# EAGLE library part IC-PCA9555 (library ic)
NXP I²C 16-bit I/O Expander
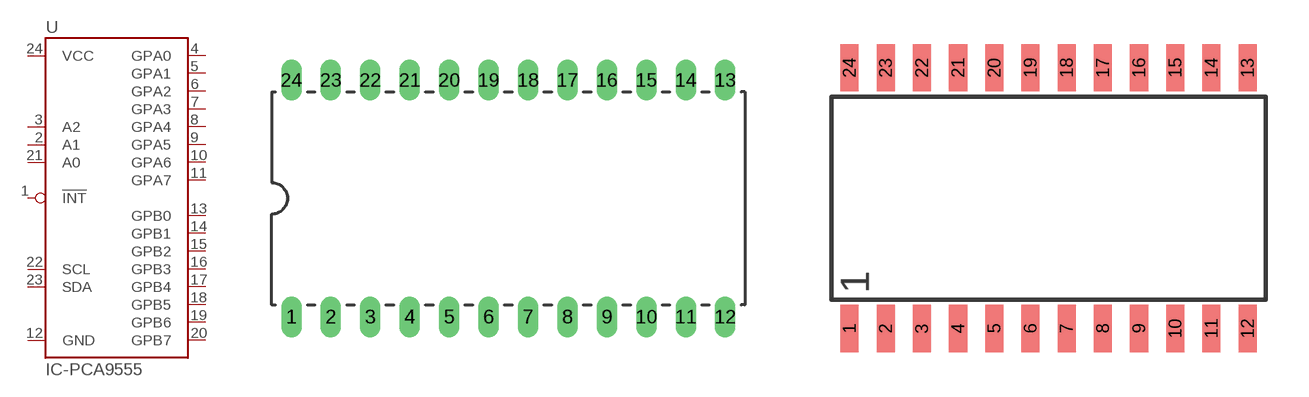
[diagram p12: symbol with the pads of IC-24-DIP-600; footprints IC-24-DIP-600, IC-24-SOIC-300]

Designator prefix U

## IC-PCA9555-DIP  [IC-24-DIP-600]
1  !INT  out
2  A1  in
3  A2  in
4  GPA0
5  GPA1
6  GPA2
7  GPA3
8  GPA4
9  GPA5
10  GPA6
11  GPA7
12  GND  pwr
13  GPB0
14  GPB1
15  GPB2
16  GPB3
17  GPB4
18  GPB5
19  GPB6
20  GPB7
21  A0  in
22  SCL  in
23  SDA
24  VCC  pwr

## IC-PCA9555-SOIC  [IC-24-SOIC-300]
Pads as for IC-24-DIP-600

## Footprint IC-24-DIP-600 (pad centres in mm)
DIP (Dual Inline Package), 24 pin, 600 mil width
drill 0.813 long: 1 -13.97,-7.62; 2 -11.43,-7.62; 3 -8.89,-7.62; 4 -6.35,-7.62; 5 -3.81,-7.62; 6 -1.27,-7.62; 7 1.27,-7.62; 8 3.81,-7.62; 9 6.35,-7.62; 10 8.89,-7.62; 11 11.43,-7.62; 12 13.97,-7.62; 13 13.97,7.62; 14 11.43,7.62; 15 8.89,7.62; 16 6.35,7.62; 17 3.81,7.62; 18 1.27,7.62; 19 -1.27,7.62; 20 -3.81,7.62; 21 -6.35,7.62; 22 -8.89,7.62; 23 -11.43,7.62; 24 -13.97,7.62

## Footprint IC-24-SOIC-300 (pad centres in mm)
smd 0.635 x 1.651: 1 -6.985,-4.572; 2 -5.715,-4.572; 3 -4.445,-4.572; 4 -3.175,-4.572; 5 -1.905,-4.572; 6 -0.635,-4.572; 7 0.635,-4.572; 8 1.905,-4.572; 9 3.175,-4.572; 10 4.445,-4.572; 11 5.715,-4.572; 12 6.985,-4.572; 13 6.985,4.572; 14 5.715,4.572; 15 4.445,4.572; 16 3.175,4.572; 17 1.905,4.572; 18 0.635,4.572; 19 -0.635,4.572; 20 -1.905,4.572; 21 -3.175,4.572; 22 -4.445,4.572; 23 -5.715,4.572; 24 -6.985,4.572